# EAGLE library part 10118192-0001LF (library con-usb)
USB - microUSB Type B, FCI
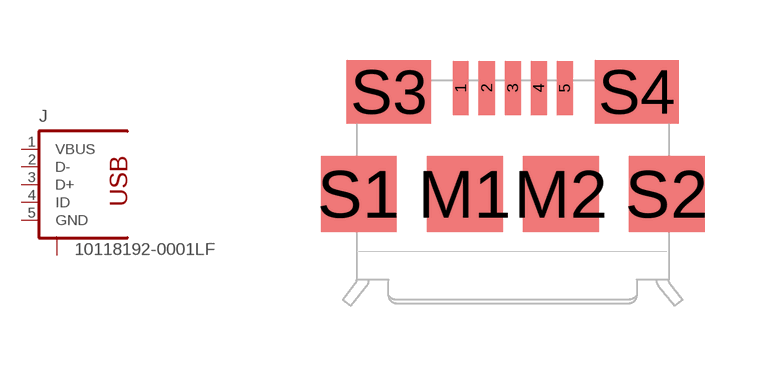
[diagram p12: symbol with the pads of 10118192-0001LF; footprint 10118192-0001LF]

Designator prefix J

## 10118192-0001LF  [10118192-0001LF]
1  VBUS  pas
2  D-  pas
3  D+  pas
4  ID  pas
5  GND  pas
M1  S  pas
M2  S  pas
S1  S  pas
S2  S  pas
S3  S  pas
S4  S  pas

## Footprint 10118192-0001LF (pad centres in mm)
USB MICRO B FCI
smd 0.4 x 1.35: 1 -1.3,4.1; 2 -0.65,4.1; 3 0,4.1; 4 0.65,4.1; 5 1.3,4.1
smd 1.9 x 1.9: M1 -1.2,1.45; M2 1.2,1.45; S1 -3.85,1.45; S2 3.85,1.45
smd 2.1 x 1.6: S3 -3.1,4; S4 3.1,4